# EAGLE library part TRANSFERHEADER (library 3D_MIG_Controller)
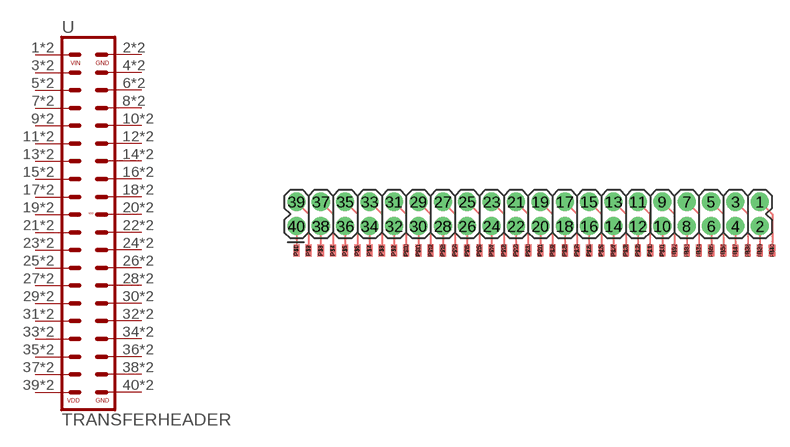
[diagram p8: symbol with the pads of TRANSFERHEADER; footprint TRANSFERHEADER]

Designator prefix -

## TRANSFERHEADER  [TRANSFERHEADER]
1  VIN  pwr
2  GND  pwr
3  3  pas
4  4  pas
5  5  pas
6  6  pas
7  7  pas
8  8  pas
9  9  pas
10  10  pas
11  11  pas
12  12  pas
13  13  pas
14  14  pas
15  15  pas
16  16  pas
17  17  pas
18  18  pas
19  19  pas
20  20  pas
21  21  pas
22  22  pas
23  23  pas
24  24  pas
25  25  pas
26  26  pas
27  27  pas
28  28  pas
29  29  pas
30  30  pas
31  31  pas
32  32  pas
33  33  pas
34  34  pas
35  35  pas
36  36  pas
37  37  pas
38  38  pas
39  VDD  pwr
40  GND  pwr
P1  VIN  pwr
P2  GND  pwr
P3  3  pas
P4  4  pas
P5  5  pas
P6  6  pas
P7  7  pas
P8  8  pas
P9  9  pas
P10  10  pas
P11  11  pas
P12  12  pas
P13  13  pas
P14  14  pas
P15  15  pas
P16  16  pas
P17  17  pas
P18  18  pas
P19  19  pas
P20  20  pas
P21  21  pas
P22  22  pas
P23  23  pas
P24  24  pas
P25  25  pas
P26  26  pas
P27  27  pas
P28  28  pas
P29  29  pas
P30  30  pas
P31  31  pas
P32  32  pas
P33  33  pas
P34  34  pas
P35  35  pas
P36  36  pas
P37  37  pas
P38  38  pas
P39  VDD  pwr
P40  GND  pwr

## Footprint TRANSFERHEADER (pad centres in mm)
drill 1 pad 1.88: 1 24.13,1.27; 2 24.13,-1.27; 3 21.59,1.27; 4 21.59,-1.27; 5 19.05,1.27; 6 19.05,-1.27; 7 16.51,1.27; 8 16.51,-1.27; 9 13.97,1.27; 10 13.97,-1.27; 11 11.43,1.27; 12 11.43,-1.27; 13 8.89,1.27; 14 8.89,-1.27; 15 6.35,1.27; 16 6.35,-1.27; 17 3.81,1.27; 18 3.81,-1.27; 19 1.27,1.27; 20 1.27,-1.27; 21 -1.27,1.27; 22 -1.27,-1.27; 23 -3.81,1.27; 24 -3.81,-1.27; 25 -6.35,1.27; 26 -6.35,-1.27; 27 -8.89,1.27; 28 -8.89,-1.27; 29 -11.43,1.27; 30 -11.43,-1.27; 31 -13.97,1.27; 32 -13.97,-1.27; 33 -16.51,1.27; 34 -16.51,-1.27; 35 -19.05,1.27; 36 -19.05,-1.27; 37 -21.59,1.27; 38 -21.59,-1.27; 39 -24.13,1.27; 40 -24.13,-1.27
smd 0.635 x 1.27: P1 25.4,-3.81; P2 24.13,-3.81; P3 22.86,-3.81; P4 21.59,-3.81; P5 20.32,-3.81; P6 19.05,-3.81; P7 17.78,-3.81; P8 16.51,-3.81; P9 15.24,-3.81; P10 13.97,-3.81; P11 12.7,-3.81; P12 11.43,-3.81; P13 10.16,-3.81; P14 8.89,-3.81; P15 7.62,-3.81; P16 6.35,-3.81; P17 5.08,-3.81; P18 3.81,-3.81; P19 2.54,-3.81; P20 1.27,-3.81; P21 0,-3.81; P22 -1.27,-3.81; P23 -2.54,-3.81; P24 -3.81,-3.81; P25 -5.08,-3.81; P26 -6.35,-3.81; P27 -7.62,-3.81; P28 -8.89,-3.81; P29 -10.16,-3.81; P30 -11.43,-3.81; P31 -12.7,-3.81; P32 -13.97,-3.81; P33 -15.24,-3.81; P34 -16.51,-3.81; P35 -17.78,-3.81; P36 -19.05,-3.81; P37 -20.32,-3.81; P38 -21.59,-3.81; P39 -22.86,-3.81; P40 -24.13,-3.81
smd 0.635 x 1.27 bottom: P$1 -24.13,-3.81; P$2 -22.86,-3.81; P$3 -21.59,-3.81; P$4 -20.32,-3.81; P$5 -19.05,-3.81; P$6 -17.78,-3.81; P$7 -16.51,-3.81; P$8 -15.24,-3.81; P$9 -13.97,-3.81; P$10 -12.7,-3.81; P$11 -11.43,-3.81; P$12 -10.16,-3.81; P$13 -8.89,-3.81; P$14 -7.62,-3.81; P$15 -6.35,-3.81; P$16 -5.08,-3.81; P$17 -3.81,-3.81; P$18 -2.54,-3.81; P$19 -1.27,-3.81; P$20 0,-3.81; P$21 1.27,-3.81; P$22 2.54,-3.81; P$23 3.81,-3.81; P$24 5.08,-3.81; P$25 6.35,-3.81; P$26 7.62,-3.81; P$27 8.89,-3.81; P$28 10.16,-3.81; P$29 11.43,-3.81; P$30 12.7,-3.81; P$31 13.97,-3.81; P$32 15.24,-3.81; P$33 16.51,-3.81; P$34 17.78,-3.81; P$35 19.05,-3.81; P$36 20.32,-3.81; P$37 21.59,-3.81; P$38 22.86,-3.81; P$39 24.13,-3.81; P$40 25.4,-3.81